# Altium integrated library WP-RATR.intlib: 10 symbols
Pins are listed as number, name and electrical type; pins without a type are passive.

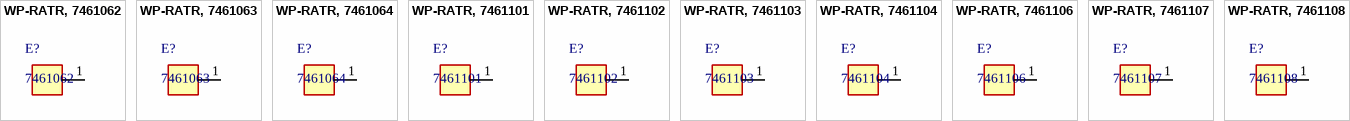
[diagram p0: symbols WP-RATR, 7461062 to WP-RATR, 7461108]

## WP-RATR, 7461062
designator E?, comment 7461062
WP-RATR 90° with Two Rows Pin Plate, Ø3.2mm, thrh 3.8mm; Manufacturer: Wurth Elektronik; partNo: 7461062; ComponentLink1Description: Manufacturer; ComponentLink1URL: http://www.we-online.de; Created by: Baojun Chen; Created Date: Dec.2015; ComponentLink2Description: Datasheet; ComponentLink2URL: http://katalog.we-online.de/em/datasheet/7461062.pdf
footprint 7461062_Chemical Surface (?3.2mm, thrh 3.8mm)
footprint 7461062_HAL Surface (?3.2mm, thrh 3.8mm)
pins: 1

## WP-RATR, 7461063
designator E?, comment 7461063
WP-RATR 90° with Two Rows Pin Plate, M4, thr 5mm; Manufacturer: Wurth Elektronik; partNo: 7461063; ComponentLink1Description: Manufacturer; ComponentLink1URL: http://www.we-online.de; Created by: Baojun Chen; Created Date: Dec.2015; ComponentLink2Description: Datasheet; ComponentLink2URL: http://katalog.we-online.de/em/datasheet/7461063.pdf
footprint 7461063_Chemical Surface (M4, thr 5mm)
footprint 7461063_HAL Surface (M4, thr 5mm)
pins: 1

## WP-RATR, 7461064
designator E?, comment 7461064
WP-RATR 90° with Two Rows Pin Plate, Ø8.2mm, thrh 8mm; Manufacturer: Wurth Elektronik; partNo: 7461064; ComponentLink1Description: Manufacturer; ComponentLink1URL: http://www.we-online.de; Created by: Baojun Chen; Created Date: Dec.2015; ComponentLink2Description: Datasheet; ComponentLink2URL: http://katalog.we-online.de/em/datasheet/7461064.pdf
footprint 7461064_Chemical Surface (?8.2mm, thrh 8mm)
footprint 7461064_HAL Surface (?8.2mm, thrh 8mm)
pins: 1

## WP-RATR, 7461101
designator E?, comment 7461101
WP-RATR 90° with Two Rows Pin Plate, M3, thr 3.8mm; Manufacturer: Wurth Elektronik; partNo: 7461101; ComponentLink1Description: Manufacturer; ComponentLink1URL: http://www.we-online.de; Created by: Baojun Chen; Created Date: Dec.2015; ComponentLink2Description: Datasheet; ComponentLink2URL: http://katalog.we-online.de/em/datasheet/7461101.pdf
footprint 7461101_Chemical Surface (M3, thr 3.8mm)
footprint 7461101_HAL Surface (M3, thr 3.8mm)
pins: 1

## WP-RATR, 7461102
designator E?, comment 7461102
WP-RATR 90° with Two Rows Pin Plate, Ø4.2mm, thrh 5mm; Manufacturer: Wurth Elektronik; partNo: 7461102; ComponentLink1Description: Manufacturer; ComponentLink1URL: http://www.we-online.de; Created by: Baojun Chen; Created Date: Dec.2015; ComponentLink2Description: Datasheet; ComponentLink2URL: http://katalog.we-online.de/em/datasheet/7461102.pdf
footprint 7461102_Chemical Surface (?4.2mm, thrh 5mm)
footprint 7461102_HAL Surface (?4.2mm, thrh 5mm)
pins: 1

## WP-RATR, 7461103
designator E?, comment 7461103
WP-RATR 90° with Two Rows Pin Plate, M5, thr 5mm; Manufacturer: Wurth Elektronik; partNo: 7461103; ComponentLink1Description: Manufacturer; ComponentLink1URL: http://www.we-online.de; Created by: Baojun Chen; Created Date: Dec.2015; ComponentLink2Description: Datasheet; ComponentLink2URL: http://katalog.we-online.de/em/datasheet/7461103.pdf
footprint 7461103_Chemical Surface (M5, thr 5mm)
footprint 7461103_HAL Surface (M5, thr 5mm)
pins: 1

## WP-RATR, 7461104
designator E?, comment 7461104
WP-RATR 90° with Two Rows Pin Plate, Ø5.2mm, thrh 5mm; Manufacturer: Wurth Elektronik; partNo: 7461104; ComponentLink1Description: Manufacturer; ComponentLink1URL: http://www.we-online.de; Created by: Baojun Chen; Created Date: Dec.2015; ComponentLink2Description: Datasheet; ComponentLink2URL: http://katalog.we-online.de/em/datasheet/7461104.pdf
footprint 7461104_Chemical Surface (?5.2mm, thrh 5mm)
footprint 7461104_HAL Surface (?5.2mm, thrh 5mm)
pins: 1

## WP-RATR, 7461106
designator E?, comment 7461106
WP-RATR 90° with Two Rows Pin Plate, M6, thr 8mm; Manufacturer: Wurth Elektronik; partNo: 7461106; ComponentLink1Description: Manufacturer; ComponentLink1URL: http://www.we-online.de; Created by: Baojun Chen; Created Date: Dec.2015; ComponentLink2Description: Datasheet; ComponentLink2URL: http://katalog.we-online.de/em/datasheet/7461106.pdf
footprint 7461106_Chemical Surface (M6, thr 8mm)
footprint 7461106_HAL Surface (M6, thr 8mm)
pins: 1

## WP-RATR, 7461107
designator E?, comment 7461107
WP-RATR 90° with Two Rows Pin Plate, Ø6.2mm, thrh 8mm; Manufacturer: Wurth Elektronik; partNo: 7461107; ComponentLink1Description: Manufacturer; ComponentLink1URL: http://www.we-online.de; Created by: Baojun Chen; Created Date: Dec.2015; ComponentLink2Description: Datasheet; ComponentLink2URL: http://katalog.we-online.de/em/datasheet/7461107.pdf
footprint 7461107_Chemical Surface (?6.2mm, thrh 8mm)
footprint 7461107_HAL Surface (?6.2mm, thrh 8mm)
pins: 1

## WP-RATR, 7461108
designator E?, comment 7461108
WP-RATR 90° with Two Rows Pin Plate, M8, thr 8mm; Manufacturer: Wurth Elektronik; partNo: 7461108; ComponentLink1Description: Manufacturer; ComponentLink1URL: http://www.we-online.de; Created by: Baojun Chen; Created Date: Dec.2015; ComponentLink2Description: Datasheet; ComponentLink2URL: http://katalog.we-online.de/em/datasheet/7461108.pdf
footprint 7461108_Chemical Surface (M8, thr 8mm)
footprint 7461108_HAL Surface (M8, thr 8mm)
pins: 1